# Altium footprint library SOIC8-208.PcbLib: 1 footprints
Each footprint in its own frame and in the unit in brackets; x right, y up, seen from the top. Pads: shape width x height; smd on the part's side, far side on the other; paste and mask are expansions set on the pad; w line width, h text height; cw(c..) or ccw(c..) is an arc to the next point about the centre after c.
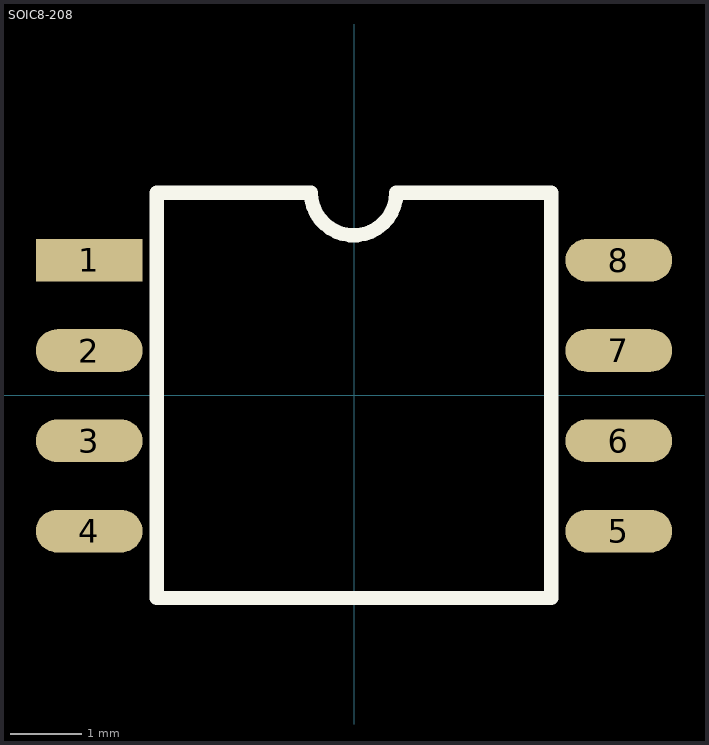
[diagram p0: the footprint, top view; thin cyan lines are the x and y axes]

## SOIC8-208 [mm]
pads (8):
  rect 1.5x0.6 smd: 1(-3.725,1.9)
  oval 1.5x0.6 smd: 2(-3.725,0.63) 3(-3.725,-0.64) 4(-3.725,-1.91) 5(3.725,-1.91) 6(3.725,-0.64) 7(3.725,0.63) 8(3.725,1.9)
Top Overlay:
  lines w0.2: -2.775,-2.85 -2.775,2.85 -0.605,2.85 ccw(c-0.005,2.85) 0.595,2.85 2.775,2.85 2.775,-2.85 -2.775,-2.85
Top Assembly:
  lines w0.1: -2.775,-2.85 -2.775,2.85 -0.6,2.85 ccw(c0,2.85) 0.6,2.85 2.775,2.85 2.775,-2.85 -2.775,-2.85
  text "'.Designator'" at -0.925,-0.35 h0.7
3D body "User Library-SOP2-8.STEP": height 1.9, standoff 0, extent -4.067,-2.745 4.067,2.745